# Altium schematic symbol library Schlib.SchLib: 8 symbols
Pins are listed as number, name and electrical type; pins without a type are passive.

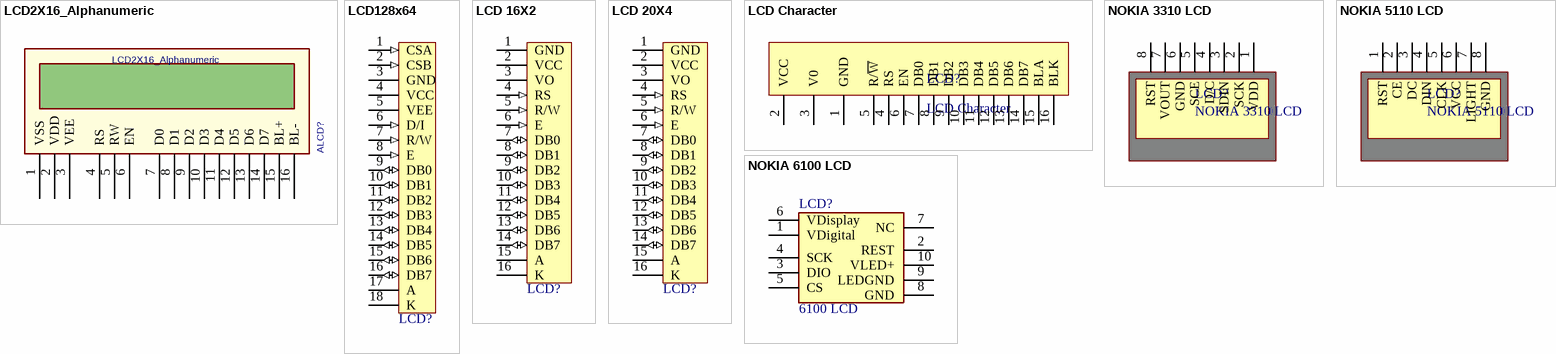
[diagram p0: symbols LCD2X16_Alphanumeric to NOKIA 6100 LCD]

## LCD2X16_Alphanumeric
designator ALCD?
Designer: Abbas Basereh; Data: 16-12-2016; Link: *; Part.No: *
footprint LCD_2X16 (LCD 2x16 Alphanumberic-Designer Abbas Basereh)
footprint LCD_2X16 BLUE10mm (LCD 2x16 Alphanumberic-Designer Abbas Basereh)
footprint LCD_2X16 BLUE - 2.5mm (LCD 2x16 Alphanumberic-Designer Abbas Basereh)
footprint LCD_2X16 GREEN10mm (LCD 2x16 Alphanumberic-Designer Abbas Basereh)
footprint LCD_2X16 GREEN - 2.5mm (LCD 2x16 Alphanumberic-Designer Abbas Basereh)
pins: 1 VSS, 2 VDD, 3 VEE, 4 RS, 5 RW, 6 EN, 7 D0, 8 D1, 9 D2, 10 D3, 11 D4, 12 D5, 13 D6, 14 D7, 15 BL+, 16 BL-

## LCD128x64
designator LCD?, comment LCD 128X64  (value not drawn)
Graphic LCD with KS108 Controller
footprint My_LCD128x64
pins: 1 CSA (in), 2 CSB (in), 3 GND (power), 4 VCC (power), 5 VEE (power), 6 D/I (in), 7 R/W (in), 8 E (in), 9 DB0 (io), 10 DB1 (io), 11 DB2 (io), 12 DB3 (io), 13 DB4 (io), 14 DB5 (io), 15 DB6 (io), 16 DB7 (io), 17 A, 18 K

## LCD 16X2
designator LCD?  (value not drawn)
LCD 16X2 Character lcd
footprint My_LCD 16x2-A
pins: 1 GND (power), 2 VCC (power), 3 VO, 4 RS (in), 5 R/W (in), 6 E (in), 7 DB0 (io), 8 DB1 (io), 9 DB2 (io), 10 DB3 (io), 11 DB4 (io), 12 DB5 (io), 13 DB6 (io), 14 DB7 (io), 15 A, 16 K

## LCD 20X4
designator LCD?  (value not drawn)
LCD 20X4 Character lcd
footprint My_LCD 20x4-A
footprint My_LCD 20x4-B
pins: 1 GND (power), 2 VCC (power), 3 VO, 4 RS (in), 5 R/W (in), 6 E (in), 7 DB0 (io), 8 DB1 (io), 9 DB2 (io), 10 DB3 (io), 11 DB4 (io), 12 DB5 (io), 13 DB6 (io), 14 DB7 (io), 15 A, 16 K

## LCD Character
designator LCD?
footprint _LCD 16X2 (Footprint not found)
footprint _HDR1X16 (Connector; Header; 16 Position)
footprint _LCD 20X4 (Footprint not found)
pins: 1 GND, 2 VCC, 3 V0, 4 RS, 5 R/~{W}, 6 EN, 7 DB0, 8 DB1, 9 DB2, 10 DB3, 11 DB4, 12 DB5, 13 DB6, 14 DB7, 15 BLA, 16 BLK

## NOKIA 3310 LCD
designator LCD?
footprint NOKIA 3310 LCD
pins: 1 VDD, 2 SCK, 3 SDIN, 4 D/C, 5 SCE, 6 GND, 7 VOUT, 8 RST

## NOKIA 5110 LCD
designator LCD?
footprint NOKIA 5110 LCD
pins: 1 RST, 2 CE, 3 DC, 4 DIN, 5 CLK, 6 VCC, 7 LIGHT, 8 GND

## NOKIA 6100 LCD
designator LCD?, comment 6100 LCD
NOKIA 6100 LCD
footprint MY_NOKIA6100_LCD
pins: 1 VDigital, 2 REST, 3 DIO, 4 SCK, 5 CS, 6 VDisplay, 7 NC, 8 GND, 9 LEDGND, 10 VLED+